# EAGLE library part RJ16 (library custom_parts)
rj16 connector (6 slots 6 connectors) from http://www.mouser.com/ProductDetail/Molex/85510-5019/?qs=sGAEpiMZZMvQhAhQbXdbBsK4oSVSRxQMQtyAf8Fqgr8%3d (drawings at http://www.molex.com/pdm_docs/sd/855105019_sd.pdf)
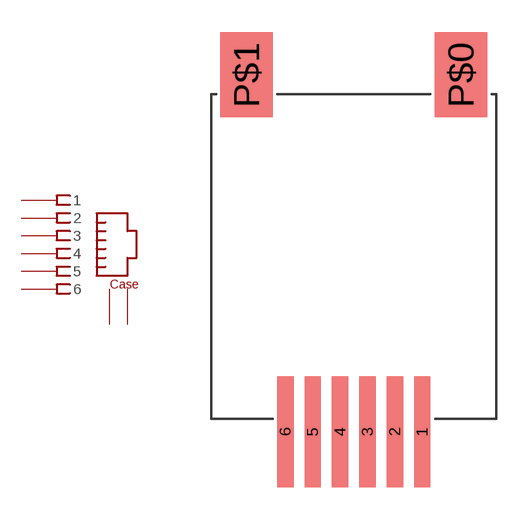
[diagram p1: symbol with the pads of 85510-5019; footprint 85510-5019]

Designator prefix -

## RJ16  [85510-5019]
1  1
2  2
3  3
4  4
5  5
6  6
P$0  P$1
P$1  P$2

## Footprint 85510-5019 (pad centres in mm)
rj16 connector (6 slots 6 connectors) from http://www.mouser.com/ProductDetail/Molex/85510-5019/?qs=sGAEpiMZZMvQhAhQbXdbBsK4oSVSRxQMQtyAf8Fqgr8%3d (drawings at http://www.molex.com/pdm_docs/sd/855105019_sd.pdf)
smd 0.76 x 5.15: 1 3.175,-8.135; 2 1.905,-8.135; 3 0.635,-8.135; 4 -0.635,-8.135; 5 -1.905,-8.135; 6 -3.175,-8.135
smd 2.45 x 3.95: P$0 4.975,8.44; P$1 -4.975,8.44